# Altium footprint library TPS63020DSJT.PcbLib: 1 footprints
Each footprint in its own frame and in the unit in brackets; x right, y up, seen from the top. Pads: shape width x height; smd on the part's side, far side on the other; paste and mask are expansions set on the pad; w line width, h text height; cw(c..) or ccw(c..) is an arc to the next point about the centre after c.
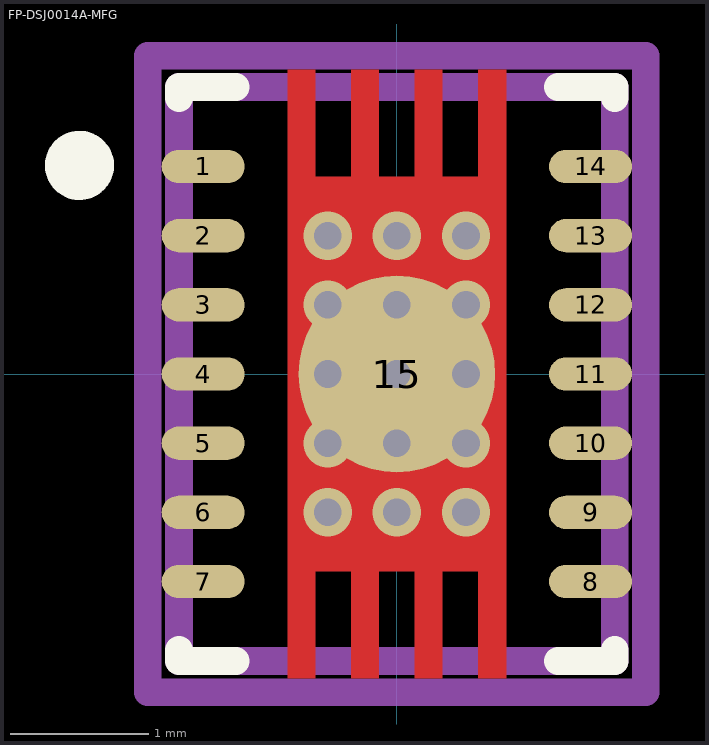
[diagram p0: the footprint, top view; thin cyan lines are the x and y axes]

## FP-DSJ0014A-MFG [mm]
pads (15):
  rrect100% 0.6x0.24 smd paste+0 mask+0: 1(-1.4,1.5) 2(-1.4,1) 3(-1.4,0.5) 4(-1.4,0) 5(-1.4,-0.5) 6(-1.4,-1) 7(-1.4,-1.5) 8(1.4,-1.5) 9(1.4,-1) 10(1.4,-0.5) 11(1.4,0) 12(1.4,0.5) 13(1.4,1) 14(1.4,1.5)
  round 1.422 smd paste-1000 mask+0: 15(0,0)
via 0,-1 diameter 0.35 hole 0.2
via 0,-0.5 diameter 0.35 hole 0.2
via 0,0 diameter 0.35 hole 0.2
via 0,0.5 diameter 0.35 hole 0.2
via 0,1 diameter 0.35 hole 0.2
via -0.5,-1 diameter 0.35 hole 0.2
via -0.5,-0.5 diameter 0.35 hole 0.2
via -0.5,0 diameter 0.35 hole 0.2
via -0.5,0.5 diameter 0.35 hole 0.2
via -0.5,1 diameter 0.35 hole 0.2
via 0.5,-1 diameter 0.35 hole 0.2
via 0.5,-0.5 diameter 0.35 hole 0.2
via 0.5,0 diameter 0.35 hole 0.2
via 0.5,0.5 diameter 0.35 hole 0.2
via 0.5,1 diameter 0.35 hole 0.2
Top Layer:
  region: -0.79,2.2 -0.59,2.2 -0.59,1.425 -0.33,1.425 -0.33,2.2 -0.13,2.2 -0.13,1.425 0.13,1.425 0.13,2.2 0.33,2.2 0.33,1.425 0.59,1.425 0.59,2.2 0.79,2.2 0.79,-2.2 0.59,-2.2 0.59,-1.425 0.33,-1.425 0.33,-2.2 0.13,-2.2 0.13,-1.425 -0.13,-1.425 -0.13,-2.2 -0.33,-2.2 -0.33,-1.425 -0.59,-1.425 -0.59,-2.2 -0.79,-2.2
Top Overlay:
  circle w0.25: c-2.294,1.508 r0.125
  lines w0.2: -1.575,-1.995 -1.575,-2.075 -1.165,-2.075 ; -1.575,1.995 -1.575,2.075 -1.165,2.075 ; 1.165,-2.075 1.575,-2.075 1.575,-1.995 ; 1.165,2.075 1.575,2.075 1.575,1.995
Top Paste:
  region: -0.13,-2.2 -0.33,-2.2 -0.33,-1.35 -0.59,-1.35 -0.59,-2.2 -0.79,-2.2 -0.79,-0.1 -0.13,-0.1
  region: 0.79,-2.2 0.59,-2.2 0.59,-1.35 0.33,-1.35 0.33,-2.2 0.13,-2.2 0.13,-0.1 0.79,-0.1
  region: -0.79,2.2 -0.59,2.2 -0.59,1.35 -0.33,1.35 -0.33,2.2 -0.13,2.2 -0.13,0.1 -0.79,0.1
  region: 0.13,2.2 0.33,2.2 0.33,1.35 0.59,1.35 0.59,2.2 0.79,2.2 0.79,0.1 0.13,0.1
Top Assembly:
  lines w0.2: -1.8,-2.3 -1.8,2.3 1.8,2.3 1.8,-2.3 -1.8,-2.3
  text ".Designator" at 0,0.188 h1
Top 3D Body:
  lines w0.2: -1.575,-2.075 -1.575,2.075 1.575,2.075 1.575,-2.075 -1.575,-2.075
Top Courtyard:
  lines w0.2: -1.8,-2.3 -1.8,2.3 1.8,2.3 1.8,-2.3 -1.8,-2.3
Top Component Center:
  lines w0.1: -0.5,0 0.5,0 ; 0,-0.5 0,0.5
3D body "IC_Texas_Instruments_TPS63020DSJT_eec.STEP": height 0.25, standoff 0, extent -1.8,-2.3 1.8,2.3